# Altium footprint library Aeroval.PcbLib: 39 footprints (part 1 of 3)
Each footprint in its own frame and in the unit in brackets; x right, y up, seen from the top. Pads: shape width x height; smd on the part's side, far side on the other; paste and mask are expansions set on the pad; w line width, h text height; cw(c..) or ccw(c..) is an arc to the next point about the centre after c.
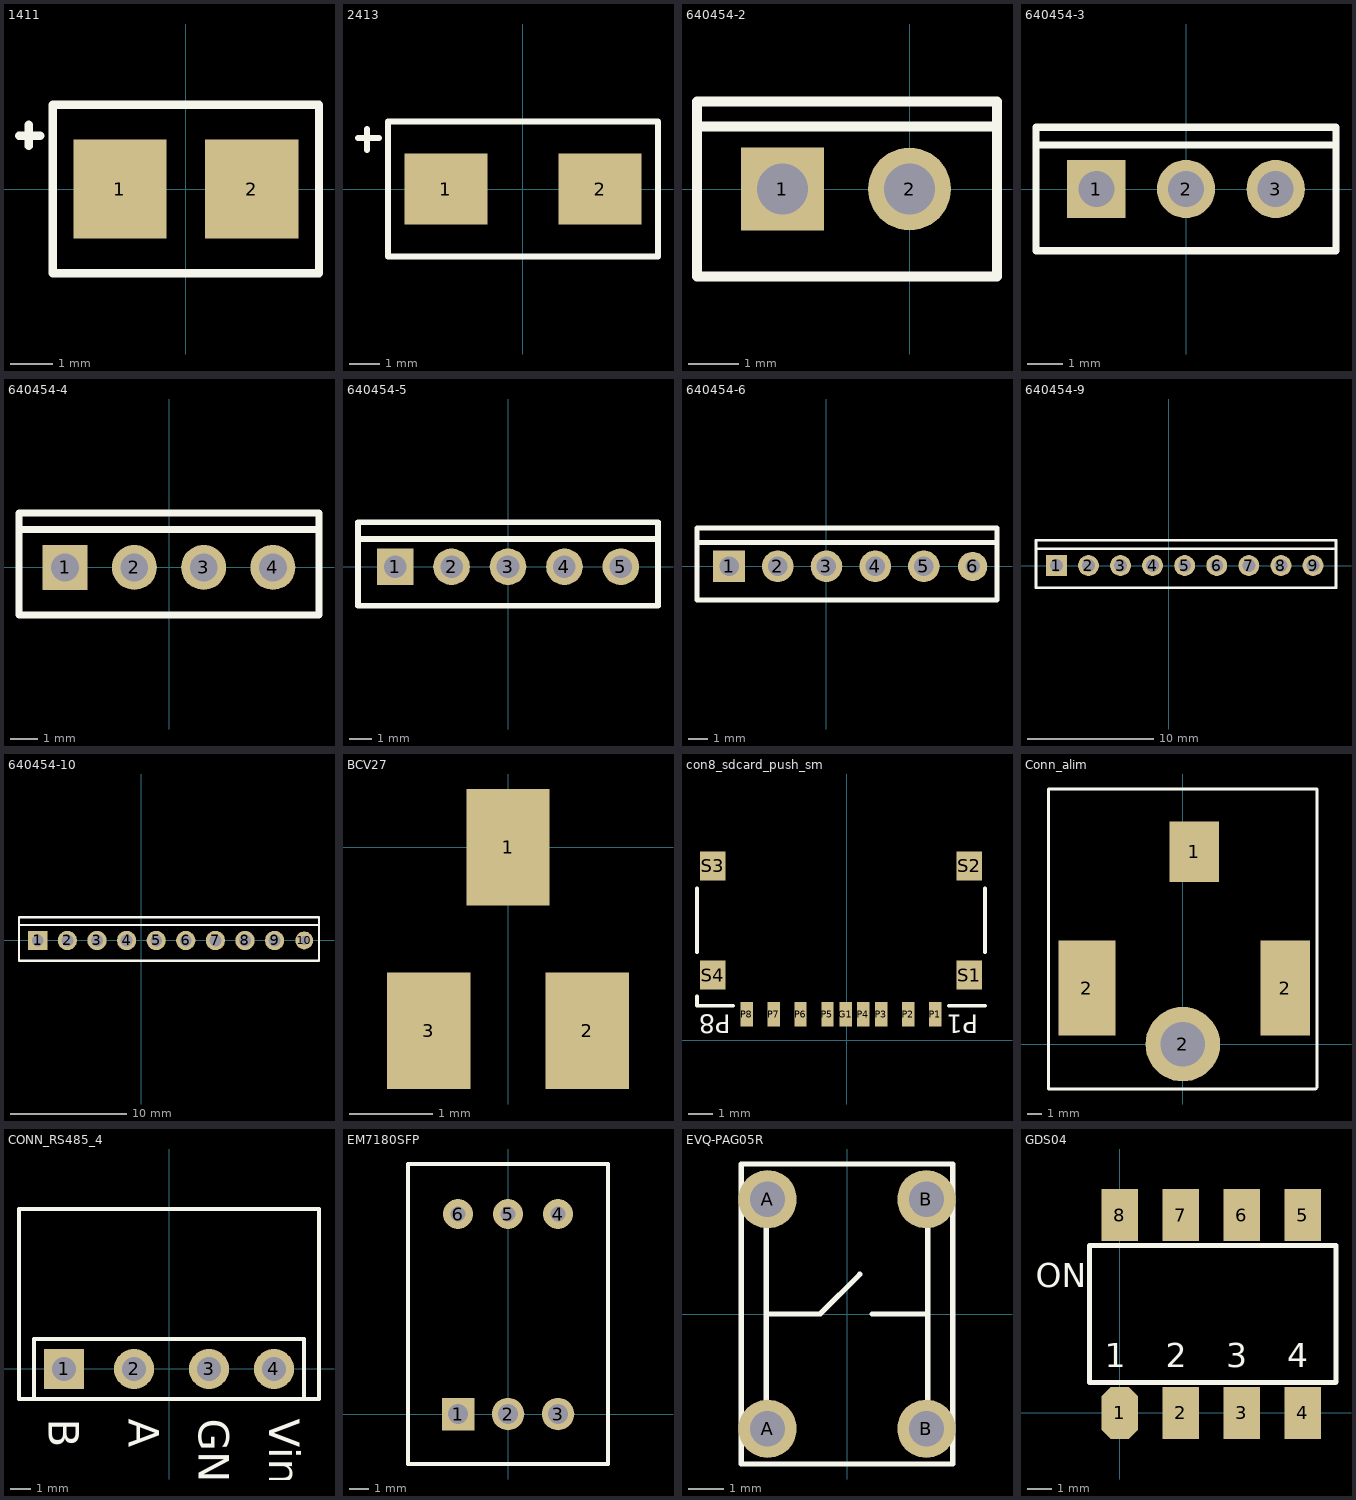
[diagram p0: the footprints below, top view; thin cyan lines are the x and y axes]

## 1411 [mm]
pads (2):
  rect 2.21x2.35 smd: 1(-1.565,0) 2(1.565,0)
Top Overlay:
  lines w0.2: -3.96,1.26 -3.46,1.26 ; -3.73,1.02 -3.73,1.52 ; -3.16,-2 -3.16,0 -3.16,2 3.16,2 3.16,-2 -3.16,-2

## 2413 [mm]
pads (2):
  rect 2.77x2.35 smd: 1(-2.57,0) 2(2.57,0)
Top Overlay:
  lines w0.2: -5.5,1.7 -4.8,1.7 ; -5.2,1.3 -5.2,2 ; -4.5,-2.25 -4.5,-0.28 -4.5,2.25 4.5,2.25 4.5,-2.25 -4.5,-2.25

## 640454-2 [mil] "CONN HEADER VERT 2POS .100 TIN"
pads (2):
  rect 65x65 hole 40: 1(-100,0)
  round 65 hole 40: 2(0,0)
Top Overlay:
  lines w7.87: -167.32,49.21 68.9,49.21 ; -167.32,-68.9 -167.32,68.9 68.9,68.9 68.9,-68.9 -167.32,-68.9

## 640454-3 [mil] "CONN HEADER VERT 3POS .100 TIN"
pads (3):
  rect 65x65 hole 40: 1(-100,0)
  round 65 hole 40: 2(0,0) 3(100,0)
Top Overlay:
  lines w7.87: -167.32,49.21 167.32,49.21 ; -167.32,-68.9 -167.32,68.9 167.32,68.9 167.32,-68.9 -167.32,-68.9

## 640454-4 [mil] "CONN HEADER VERT 4POS .100 TIN"
pads (4):
  rect 65x65 hole 40: 1(-150,0)
  round 65 hole 40: 2(-50,0) 3(50,0) 4(150,0)
Top Overlay:
  lines w10: -216.54,54.47 216.54,54.47 ; -216.54,-68.9 216.54,-68.9 216.54,78.74 -216.54,78.74 -216.54,-68.9

## 640454-5 [mil] "CONN HEADER VERT 5POS .100 TIN"
pads (5):
  rect 65x65 hole 40: 1(-200,0)
  round 65 hole 40: 2(-100,0) 3(0,0) 4(100,0) 5(200,0)
Top Overlay:
  lines w10: -265.75,49.21 265.75,49.21 ; -265.75,-68.9 -265.75,78.74 265.75,78.74 265.75,-68.9 -265.75,-68.9

## 640454-6 [mil] "CONN HEADER VERT 6POS .100 TIN"
pads (6):
  rect 65x65 hole 40: 1(-200,0)
  round 65 hole 40: 2(-100,0) 3(0,0) 4(100,0) 5(200,0)
  round 60 hole 30: 6(300,0)
Top Overlay:
  lines w10: -265.75,49.21 350,49.21 ; -265.75,-68.9 350,-68.9 350,78.74 -265.75,78.74 -265.75,-68.9

## 640454-9 [mil] "CONN HEADER VERT 9POS .100 TIN"
pads (9):
  rect 65x65 hole 40: 1(-350,0)
  round 65 hole 40: 2(-250,0) 3(-150,0) 4(-50,0) 5(50,0) 6(150,0) 7(250,0) 8(350,0) 9(450,0)
Top Overlay:
  lines w7.87: -413.39,52.31 521.65,52.31 ; -413.39,-68.9 521.65,-68.9 521.65,78.74 -413.39,78.74 -413.39,-68.9

## 640454-10 [mil] "CONN HEADER VERT 10POS .100 TIN"
pads (10):
  rect 65x65 hole 40: 1(-350,0)
  round 65 hole 40: 2(-250,0) 3(-150,0) 4(-50,0) 5(50,0) 6(150,0) 7(250,0) 8(350,0) 9(450,0)
  round 60 hole 30: 10(550,0)
Top Overlay:
  lines w7.87: -413.39,52.31 600,52.31 ; -413.39,-68.9 -413.39,78.74 600,78.74 600,-68.9 -413.39,-68.9

## BCV27 [mm]
pads (3):
  rect 1x1.4 smd: 1(0,0) 2(0.95,-2.2) 3(-0.95,-2.2)

## con8_sdcard_push_sm [mil] "CON8_SDCARD_PUSH_SM"
pads (13):
  rect 20x40 smd: G1(-1.07,41.83) P1(142.63,41.83) P2(99.33,41.83) P3(56.02,41.83) P4(26.49,41.83) P5(-30.59,41.83) P6(-73.9,41.83) P7(-117.21,41.83) P8(-160.51,41.83)
  rect 41x47 smd: S1(196.77,104.82) S2(196.77,280.02) S3(-214.65,280.02) S4(-214.65,104.82)
Top Overlay:
  lines w6: -240.15,70.38 -240.15,55.5 -182.17,55.5 ; -240.15,141.24 -240.15,243.6 ; 164.29,55.5 222.27,55.5 ; 222.27,141.24 222.27,243.6
  text "P8" at -185.67,41.24 h30
  text "P1" at 211.63,40.64 h30

## Conn_alim [mm]
pads (4):
  rect 3.3x4.06 smd: 1(0.76,12.9)
  rect 3.81x6.35 smd: 2(-6.43,3.76)
  round 5 hole 3: 2(0,0)
  rect 3.3x6.35 smd: 2(6.86,3.76)
Top Overlay:
  lines w0.2: 0,-3 8.9,-3 9,-2.9 9,17.1 -9,17.1 -9,-3 0.8,-3

## CONN_RS485_4 [mm]
pads (4):
  rect 2x2 hole 1.2: 1(-5.25,0)
  round 2 hole 1.2: 2(-1.75,0) 3(2,0) 4(5.25,0)
Top Overlay:
  lines w0.2: -6.75,-1.5 -6.75,1.5 6.75,1.5 6.75,-1.5 ; -7.5,-1.5 -4.25,-1.5 3.25,-1.5 7.5,-1.5 7.5,8 -7.5,8 -7.5,-1.5
  text "B" at -6,-2.5 h1.52
  text "A" at -2,-2.5 h1.52
  text "GND" at 1.5,-2.5 h1.52
  text "Vin" at 5,-2.5 h1.52

## EM7180SFP [mil] "EM7180SFP 6 pos 2.54mm"
pads (6):
  rect 65x65 hole 40: 1(-100,0)
  round 65 hole 40: 2(0,0) 3(100,0)
  round 60 hole 30: 4(100,400) 5(0,400) 6(-100,400)
Top Overlay:
  lines w7.87: -200,-100 -200,500 200,500 200,-100 -200,-100

## EVQ-PAG05R [mm] "SWITCH LT 6MM 260GF 5MM HEIGHT"
pads (4):
  round 1.651 hole 1: A(-2.25,-3.25) A(-2.25,3.25) B(2.25,-3.25) B(2.25,3.25)
Top Overlay:
  lines w0.152: -2.286,-2.54 -2.286,-0.04 ; -2.286,2.5 -2.286,0 -0.762,0 0.361,1.123 ; 0.714,0 2.286,0 2.286,2.5 ; 2.286,-2.54 2.286,-0.04 ; -3,-4.25 3,-4.25 3,4.25 -3,4.25 -3,-4.25

## GDS04 [mil]
pads (8):
  oct 60x85 smd: 1(0,0)
  rect 60x85 smd: 2(100,0) 3(200,0) 4(300,0) 5(300,325) 6(200,325) 7(100,325) 8(0,325)
Top Overlay:
  lines w7.87: -50,50 354.33,50 354.92,50.59 354.92,275 -50,275 -50,50
  text "1" at -25,75 h39.37
  text "ON" at -137.8,206.69 h39.37
  text "2" at 75,75 h39.37
  text "3" at 175,75 h39.37
  text "4" at 275,75 h39.37